# Altium footprint library ECW-FD2W684K-TH-CAP.PcbLib: 1 footprints
Each footprint in its own frame and in the unit in brackets; x right, y up, seen from the top. Pads: shape width x height; smd on the part's side, far side on the other; paste and mask are expansions set on the pad; w line width, h text height; cw(c..) or ccw(c..) is an arc to the next point about the centre after c.
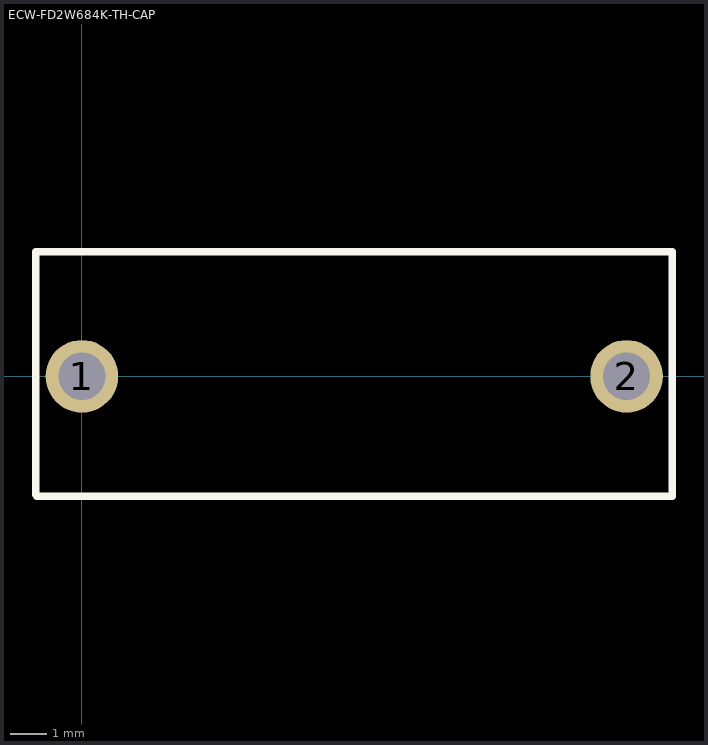
[diagram p0: the footprint, top view; thin cyan lines are the x and y axes]

## ECW-FD2W684K-TH-CAP [mm]
pads (2):
  round 2 hole 1.3: 1(0,0) 2(15,0)
Top Overlay:
  lines w0.2: -1.27,-3.271 -1.27,3.429 ; -1.244,-3.302 16.256,-3.302 ; -1.244,3.429 16.256,3.429 16.256,-3.271
3D body: height 10, standoff 0, extent -1.35,-3.3 16.35,3.45